# Altium footprint library WSON-10_2.5x2.5mm.PcbLib: 1 footprints
Each footprint in its own frame and in the unit in brackets; x right, y up, seen from the top. Pads: shape width x height; smd on the part's side, far side on the other; paste and mask are expansions set on the pad; w line width, h text height; cw(c..) or ccw(c..) is an arc to the next point about the centre after c.
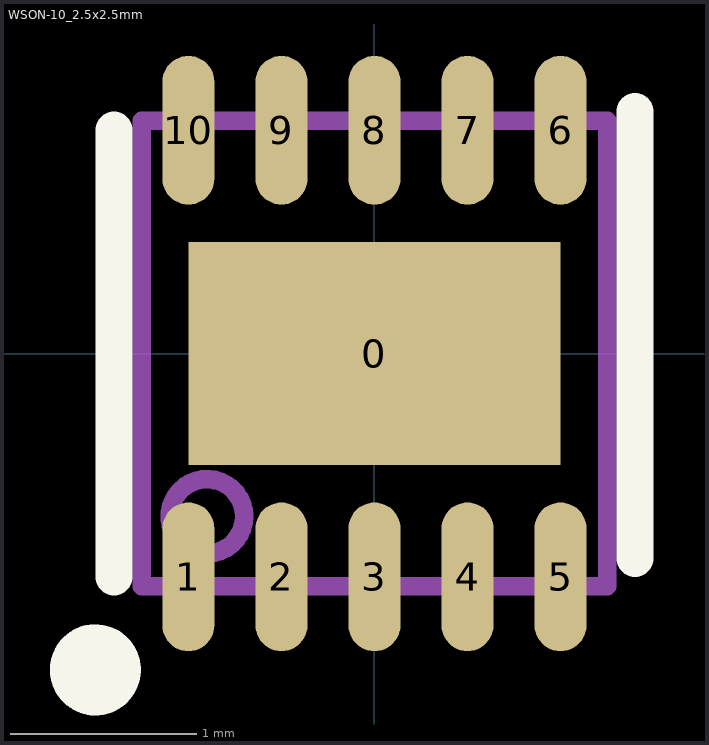
[diagram p0: the footprint, top view; thin cyan lines are the x and y axes]

## WSON-10_2.5x2.5mm [mm]
pads (11):
  rect 2x1.2 smd mask+0.051: 0(0,0)
  oval 0.28x0.8 smd paste-0.025 mask+0.051: 1(-1,-1.2) 2(-0.5,-1.2) 3(0,-1.2) 4(0.5,-1.2) 5(1,-1.2) 6(1,1.2) 7(0.5,1.2) 8(0,1.2) 9(-0.5,1.2) 10(-1,1.2)
Top Overlay:
  circle w0.25: c-1.5,-1.7 r0.12
  lines w0.2: -1.4,-1.2 -1.4,1.2 ; 1.4,-1.1 1.4,1.3
Mechanical 13:
  circle w0.1: c-0.9,-0.875 r0.2
  lines w0.1: -1.25,-1.25 -1.25,1.25 1.25,1.25 1.25,-1.25 -1.25,-1.25